# EAGLE library part DST? (library Transformer)
Split Bobbin Low Power Transformer ,115V/230V Input Datasheet <https://belfuse.com/resources/datasheets/signaltransformer/ds-st-st-series.pdf>
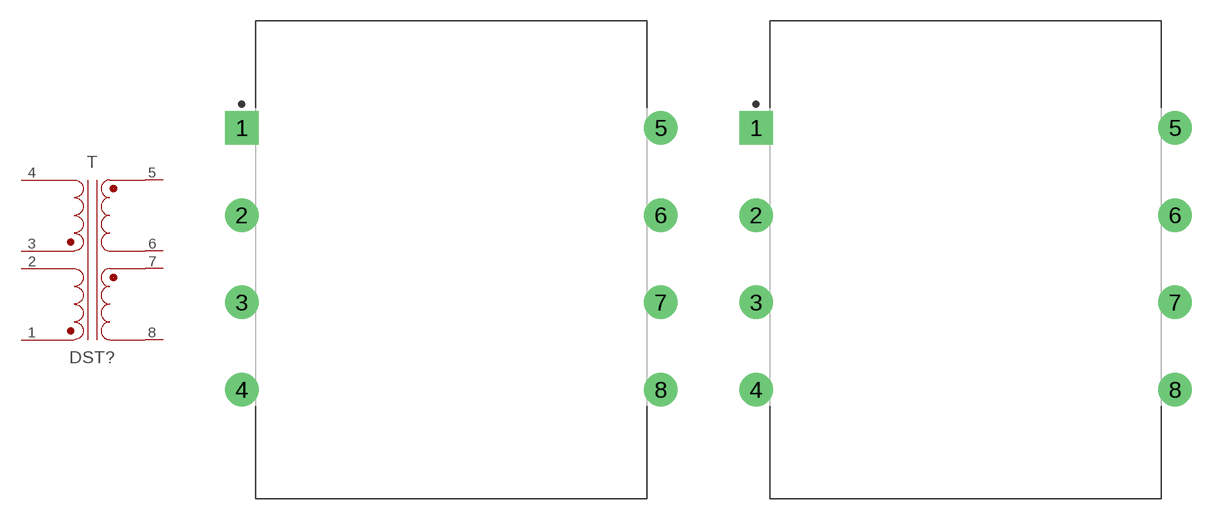
[diagram p3: symbol with the pads of XFMR_DST-2; footprints XFMR_DST-2, XFMR_DST-3]

Designator prefix T

## DST-2-10**# (CATEGORY: Transformer; DESCRIPTION: Split Bobbin Low Power Transformer | 1.1VA Power | 115V/230V Input; MANUFACTURER: Signal Transformer; MPN: DST-2-10**#; OPERATING_TEMP: -; PART_STATUS: Active; ROHS_COMPLIANT: RoHS Compliant; SERIES: DST; SUB-CATEGORY: Power; VALUE: DST-2), DST-2-12**# (CATEGORY: Transformer; DESCRIPTION: Split Bobbin Low Power Transformer | 1.1VA Power | 115V/230V Input; MANUFACTURER: Signal Transformer; MPN: DST-2-12**#; OPERATING_TEMP: -; PART_STATUS: Active; ROHS_COMPLIANT: RoHS Compliant; SERIES: DST; SUB-CATEGORY: Power; VALUE: DST-2), DST-2-120 (CATEGORY: Transformer; DESCRIPTION: Split Bobbin Low Power Transformer | 1.1VA Power | 115V/230V Input; MANUFACTURER: Signal Transformer; MPN: DST-2-120; OPERATING_TEMP: -; PART_STATUS: Active; ROHS_COMPLIANT: RoHS Compliant; SERIES: DST; SUB-CATEGORY: Power; VALUE: DST-2), DST-2-16**# (CATEGORY: Transformer; DESCRIPTION: Split Bobbin Low Power Transformer | 1.1VA Power | 115V/230V Input; MANUFACTURER: Signal Transformer; MPN: DST-2-16**#; OPERATING_TEMP: -; PART_STATUS: Active; ROHS_COMPLIANT: RoHS Compliant; SERIES: DST; SUB-CATEGORY: Power; VALUE: DST-2), DST-2-20**# (CATEGORY: Transformer; DESCRIPTION: Split Bobbin Low Power Transformer | 1.1VA Power | 115V/230V Input; MANUFACTURER: Signal Transformer; MPN: DST-2-20**#; OPERATING_TEMP: -; PART_STATUS: Active; ROHS_COMPLIANT: RoHS Compliant; SERIES: DST; SUB-CATEGORY: Power; VALUE: DST-2), DST-2-24**# (CATEGORY: Transformer; DESCRIPTION: Split Bobbin Low Power Transformer | 1.1VA Power | 115V/230V Input; MANUFACTURER: Signal Transformer; MPN: DST-2-24**#; OPERATING_TEMP: -; PART_STATUS: Active; ROHS_COMPLIANT: RoHS Compliant; SERIES: DST; SUB-CATEGORY: Power; VALUE: DST-2), DST-2-28 (CATEGORY: Transformer; DESCRIPTION: Split Bobbin Low Power Transformer | 1.1VA Power | 115V/230V Input; MANUFACTURER: Signal Transformer; MPN: DST-2-28; OPERATING_TEMP: -; PART_STATUS: Active; ROHS_COMPLIANT: RoHS Compliant; SERIES: DST; SUB-CATEGORY: Power; VALUE: DST-2), DST-2-36 (CATEGORY: Transformer; DESCRIPTION: Split Bobbin Low Power Transformer | 1.1VA Power | 115V/230V Input; MANUFACTURER: Signal Transformer; MPN: DST-2-36; OPERATING_TEMP: -; PART_STATUS: Active; ROHS_COMPLIANT: RoHS Compliant; SERIES: DST; SUB-CATEGORY: Power; VALUE: DST-2), DST-2-48 (CATEGORY: Transformer; DESCRIPTION: Split Bobbin Low Power Transformer | 1.1VA Power | 115V/230V Input; MANUFACTURER: Signal Transformer; MPN: DST-2-48; OPERATING_TEMP: -; PART_STATUS: Active; ROHS_COMPLIANT: RoHS Compliant; SERIES: DST; SUB-CATEGORY: Power; VALUE: DST-2), DST-2-56 (CATEGORY: Transformer; DESCRIPTION: Split Bobbin Low Power Transformer | 1.1VA Power | 115V/230V Input; MANUFACTURER: Signal Transformer; MPN: DST-2-56; OPERATING_TEMP: -; PART_STATUS: Active; ROHS_COMPLIANT: RoHS Compliant; SERIES: DST; SUB-CATEGORY: Power; VALUE: DST-2)  [XFMR_DST-2]
1  1  pas
2  2  pas
3  3  pas
4  4  pas
5  5  pas
6  6  pas
7  7  pas
8  8  pas

## DST-3-10*# (CATEGORY: Transformer; DESCRIPTION: Split Bobbin Low Power Transformer | 2.4VA Power | 115V/230V Input; MANUFACTURER: Signal Transformer; MPN: DST-3-10*#; OPERATING_TEMP: -; PART_STATUS: Active; ROHS_COMPLIANT: RoHS Compliant; SERIES: DST; SUB-CATEGORY: Power; VALUE: DST-3), DST-3-12*# (CATEGORY: Transformer; DESCRIPTION: Split Bobbin Low Power Transformer | 2.4VA Power | 115V/230V Input; MANUFACTURER: Signal Transformer; MPN: DST-3-12*#; OPERATING_TEMP: -; PART_STATUS: Active; ROHS_COMPLIANT: RoHS Compliant; SERIES: DST; SUB-CATEGORY: Power; VALUE: DST-3), DST-3-120 (CATEGORY: Transformer; DESCRIPTION: Split Bobbin Low Power Transformer | 2.4VA Power | 115V/230V Input; MANUFACTURER: Signal Transformer; MPN: DST-3-120; OPERATING_TEMP: -; PART_STATUS: Active; ROHS_COMPLIANT: RoHS Compliant; SERIES: DST; SUB-CATEGORY: Power; VALUE: DST-3), DST-3-16*# (CATEGORY: Transformer; DESCRIPTION: Split Bobbin Low Power Transformer | 2.4VA Power | 115V/230V Input; MANUFACTURER: Signal Transformer; MPN: DST-3-16*#; OPERATING_TEMP: -; PART_STATUS: Active; ROHS_COMPLIANT: RoHS Compliant; SERIES: DST; SUB-CATEGORY: Power; VALUE: DST-3), DST-3-20*# (CATEGORY: Transformer; DESCRIPTION: Split Bobbin Low Power Transformer | 2.4VA Power | 115V/230V Input; MANUFACTURER: Signal Transformer; MPN: DST-3-20*#; OPERATING_TEMP: -; PART_STATUS: Active; ROHS_COMPLIANT: RoHS Compliant; SERIES: DST; SUB-CATEGORY: Power; VALUE: DST-3), DST-3-24*# (CATEGORY: Transformer; DESCRIPTION: Split Bobbin Low Power Transformer | 2.4VA Power | 115V/230V Input; MANUFACTURER: Signal Transformer; MPN: DST-3-24*#; OPERATING_TEMP: -; PART_STATUS: Active; ROHS_COMPLIANT: RoHS Compliant; SERIES: DST; SUB-CATEGORY: Power; VALUE: DST-3), DST-3-28 (CATEGORY: Transformer; DESCRIPTION: Split Bobbin Low Power Transformer | 2.4VA Power | 115V/230V Input; MANUFACTURER: Signal Transformer; MPN: DST-3-28; OPERATING_TEMP: -; PART_STATUS: Active; ROHS_COMPLIANT: RoHS Compliant; SERIES: DST; SUB-CATEGORY: Power; VALUE: DST-3), DST-3-36 (CATEGORY: Transformer; DESCRIPTION: Split Bobbin Low Power Transformer | 2.4VA Power | 115V/230V Input; MANUFACTURER: Signal Transformer; MPN: DST-3-36; OPERATING_TEMP: -; PART_STATUS: Active; ROHS_COMPLIANT: RoHS Compliant; SERIES: DST; SUB-CATEGORY: Power; VALUE: DST-3), DST-3-48 (CATEGORY: Transformer; DESCRIPTION: Split Bobbin Low Power Transformer | 2.4VA Power | 115V/230V Input; MANUFACTURER: Signal Transformer; MPN: DST-3-48; OPERATING_TEMP: -; PART_STATUS: Active; ROHS_COMPLIANT: RoHS Compliant; SERIES: DST; SUB-CATEGORY: Power; VALUE: DST-3), DST-3-56 (CATEGORY: Transformer; DESCRIPTION: Split Bobbin Low Power Transformer | 2.4VA Power | 115V/230V Input; MANUFACTURER: Signal Transformer; MPN: DST-3-56; OPERATING_TEMP: -; PART_STATUS: Active; ROHS_COMPLIANT: RoHS Compliant; SERIES: DST; SUB-CATEGORY: Power; VALUE: DST-3)  [XFMR_DST-3]
Pads as for XFMR_DST-2

## DST-4-10*# (CATEGORY: Transformer; DESCRIPTION: Split Bobbin Low Power Transformer | 6VA Power | 115V/230V Input; MANUFACTURER: Signal Transformer; MPN: DST-4-10*#; OPERATING_TEMP: -; PART_STATUS: Active; SERIES: DST; SUB-CATEGORY: Power; VALUE: DST-4), DST-4-12*# (CATEGORY: Transformer; DESCRIPTION: Split Bobbin Low Power Transformer | 6VA Power | 115V/230V Input; MANUFACTURER: Signal Transformer; MPN: DST-4-12*#; OPERATING_TEMP: -; PART_STATUS: Active; SERIES: DST; SUB-CATEGORY: Power; VALUE: DST-4), DST-4-120 (CATEGORY: Transformer; DESCRIPTION: Split Bobbin Low Power Transformer | 6VA Power | 115V/230V Input; MANUFACTURER: Signal Transformer; MPN: DST-4-120; OPERATING_TEMP: -; PART_STATUS: Active; SERIES: DST; SUB-CATEGORY: Power; VALUE: DST-4), DST-4-16*# (CATEGORY: Transformer; DESCRIPTION: Split Bobbin Low Power Transformer | 6VA Power | 115V/230V Input; MANUFACTURER: Signal Transformer; MPN: DST-4-16*#; OPERATING_TEMP: -; PART_STATUS: Active; SERIES: DST; SUB-CATEGORY: Power; VALUE: DST-4), DST-4-20*# (CATEGORY: Transformer; DESCRIPTION: Split Bobbin Low Power Transformer | 6VA Power | 115V/230V Input; MANUFACTURER: Signal Transformer; MPN: DST-4-20*#; OPERATING_TEMP: -; PART_STATUS: Active; SERIES: DST; SUB-CATEGORY: Power; VALUE: DST-4), DST-4-24*# (CATEGORY: Transformer; DESCRIPTION: Split Bobbin Low Power Transformer | 6VA Power | 115V/230V Input; MANUFACTURER: Signal Transformer; MPN: DST-4-24*#; OPERATING_TEMP: -; PART_STATUS: Active; SERIES: DST; SUB-CATEGORY: Power; VALUE: DST-4), DST-4-28 (CATEGORY: Transformer; DESCRIPTION: Split Bobbin Low Power Transformer | 6VA Power | 115V/230V Input; MANUFACTURER: Signal Transformer; MPN: DST-4-28; OPERATING_TEMP: -; PART_STATUS: Active; SERIES: DST; SUB-CATEGORY: Power; VALUE: DST-4), DST-4-36 (CATEGORY: Transformer; DESCRIPTION: Split Bobbin Low Power Transformer | 6VA Power | 115V/230V Input; MANUFACTURER: Signal Transformer; MPN: DST-4-36; OPERATING_TEMP: -; PART_STATUS: Active; SERIES: DST; SUB-CATEGORY: Power; VALUE: DST-4), DST-4-48 (CATEGORY: Transformer; DESCRIPTION: Split Bobbin Low Power Transformer | 6VA Power | 115V/230V Input; MANUFACTURER: Signal Transformer; MPN: DST-4-48; OPERATING_TEMP: -; PART_STATUS: Active; SERIES: DST; SUB-CATEGORY: Power; VALUE: DST-4), DST-4-56 (CATEGORY: Transformer; DESCRIPTION: Split Bobbin Low Power Transformer | 6VA Power | 115V/230V Input; MANUFACTURER: Signal Transformer; MPN: DST-4-56; OPERATING_TEMP: -; PART_STATUS: Active; SERIES: DST; SUB-CATEGORY: Power; VALUE: DST-4)  [XFMR_DST-4]
Pads as for XFMR_DST-2

## DST-5-10*# (CATEGORY: Transformer; DESCRIPTION: Split Bobbin Low Power Transformer | 12VA Power | 115V/230V Input; MANUFACTURER: Signal Transformer; MPN: DST-5-10*#; OPERATING_TEMP: -; PART_STATUS: Active; ROHS_COMPLIANT: RoHS Compliant; SUB-CATEGORY: Power; VALUE: DST-5), DST-5-12*# (CATEGORY: Transformer; DESCRIPTION: Split Bobbin Low Power Transformer | 12VA Power | 115V/230V Input; MANUFACTURER: Signal Transformer; MPN: DST-5-12*#; OPERATING_TEMP: -; PART_STATUS: Active; ROHS_COMPLIANT: RoHS Compliant; SUB-CATEGORY: Power; VALUE: DST-5), DST-5-120 (CATEGORY: Transformer; DESCRIPTION: Split Bobbin Low Power Transformer | 12VA Power | 115V/230V Input; MANUFACTURER: Signal Transformer; MPN: DST-5-120; OPERATING_TEMP: -; PART_STATUS: Active; ROHS_COMPLIANT: RoHS Compliant; SUB-CATEGORY: Power; VALUE: DST-5), DST-5-16*# (CATEGORY: Transformer; DESCRIPTION: Split Bobbin Low Power Transformer | 12VA Power | 115V/230V Input; MANUFACTURER: Signal Transformer; MPN: DST-5-16*#; OPERATING_TEMP: -; PART_STATUS: Active; ROHS_COMPLIANT: RoHS Compliant; SUB-CATEGORY: Power; VALUE: DST-5), DST-5-20*# (CATEGORY: Transformer; DESCRIPTION: Split Bobbin Low Power Transformer | 12VA Power | 115V/230V Input; MANUFACTURER: Signal Transformer; MPN: DST-5-20*#; OPERATING_TEMP: -; PART_STATUS: Active; ROHS_COMPLIANT: RoHS Compliant; SUB-CATEGORY: Power; VALUE: DST-5), DST-5-24*# (CATEGORY: Transformer; DESCRIPTION: Split Bobbin Low Power Transformer | 12VA Power | 115V/230V Input; MANUFACTURER: Signal Transformer; MPN: DST-5-24*#; OPERATING_TEMP: -; PART_STATUS: Active; ROHS_COMPLIANT: RoHS Compliant; SUB-CATEGORY: Power; VALUE: DST-5), DST-5-28 (CATEGORY: Transformer; DESCRIPTION: Split Bobbin Low Power Transformer | 12VA Power | 115V/230V Input; MANUFACTURER: Signal Transformer; MPN: DST-5-28; OPERATING_TEMP: -; PART_STATUS: Active; ROHS_COMPLIANT: RoHS Compliant; SUB-CATEGORY: Power; VALUE: DST-5), DST-5-36 (CATEGORY: Transformer; DESCRIPTION: Split Bobbin Low Power Transformer | 12VA Power | 115V/230V Input; MANUFACTURER: Signal Transformer; MPN: DST-5-36; OPERATING_TEMP: -; PART_STATUS: Active; ROHS_COMPLIANT: RoHS Compliant; SUB-CATEGORY: Power; VALUE: DST-5), DST-5-48 (CATEGORY: Transformer; DESCRIPTION: Split Bobbin Low Power Transformer | 12VA Power | 115V/230V Input; MANUFACTURER: Signal Transformer; MPN: DST-5-48; OPERATING_TEMP: -; PART_STATUS: Active; ROHS_COMPLIANT: RoHS Compliant; SUB-CATEGORY: Power; VALUE: DST-5), DST-5-56 (CATEGORY: Transformer; DESCRIPTION: Split Bobbin Low Power Transformer | 12VA Power | 115V/230V Input; MANUFACTURER: Signal Transformer; MPN: DST-5-56; OPERATING_TEMP: -; PART_STATUS: Active; ROHS_COMPLIANT: RoHS Compliant; SUB-CATEGORY: Power; VALUE: DST-5)  [XFMR_DST-5]
Pads as for XFMR_DST-2

## DST-6-10 (CATEGORY: Transformer; DESCRIPTION: Split Bobbin Low Power Transformer | 20VA Power | 115V/230V Input; MANUFACTURER: Signal Transformer; MPN: DST-6-10; OPERATING_TEMP: -; PART_STATUS: Active; ROHS_COMPLIANT: RoHS Compliant; SERIES: DST; SUB-CATEGORY: Power; VALUE: DST-6), DST-6-12 (CATEGORY: Transformer; DESCRIPTION: Split Bobbin Low Power Transformer | 20VA Power | 115V/230V Input; MANUFACTURER: Signal Transformer; MPN: DST-6-12; OPERATING_TEMP: -; PART_STATUS: Active; ROHS_COMPLIANT: RoHS Compliant; SERIES: DST; SUB-CATEGORY: Power; VALUE: DST-6), DST-6-120 (CATEGORY: Transformer; DESCRIPTION: Split Bobbin Low Power Transformer | 20VA Power | 115V/230V Input; MANUFACTURER: Signal Transformer; MPN: DST-6-120; OPERATING_TEMP: -; PART_STATUS: Active; ROHS_COMPLIANT: RoHS Compliant; SERIES: DST; SUB-CATEGORY: Power; VALUE: DST-6), DST-6-16 (CATEGORY: Transformer; DESCRIPTION: Split Bobbin Low Power Transformer | 20VA Power | 115V/230V Input; MANUFACTURER: Signal Transformer; MPN: DST-6-16; OPERATING_TEMP: -; PART_STATUS: Active; ROHS_COMPLIANT: RoHS Compliant; SERIES: DST; SUB-CATEGORY: Power; VALUE: DST-6), DST-6-20 (CATEGORY: Transformer; DESCRIPTION: Split Bobbin Low Power Transformer | 20VA Power | 115V/230V Input; MANUFACTURER: Signal Transformer; MPN: DST-6-20; OPERATING_TEMP: -; PART_STATUS: Active; ROHS_COMPLIANT: RoHS Compliant; SERIES: DST; SUB-CATEGORY: Power; VALUE: DST-6), DST-6-24 (CATEGORY: Transformer; DESCRIPTION: Split Bobbin Low Power Transformer | 20VA Power | 115V/230V Input; MANUFACTURER: Signal Transformer; MPN: DST-6-24; OPERATING_TEMP: -; PART_STATUS: Active; ROHS_COMPLIANT: RoHS Compliant; SERIES: DST; SUB-CATEGORY: Power; VALUE: DST-6), DST-6-28 (CATEGORY: Transformer; DESCRIPTION: Split Bobbin Low Power Transformer | 20VA Power | 115V/230V Input; MANUFACTURER: Signal Transformer; MPN: DST-6-28; OPERATING_TEMP: -; PART_STATUS: Active; ROHS_COMPLIANT: RoHS Compliant; SERIES: DST; SUB-CATEGORY: Power; VALUE: DST-6), DST-6-36 (CATEGORY: Transformer; DESCRIPTION: Split Bobbin Low Power Transformer | 20VA Power | 115V/230V Input; MANUFACTURER: Signal Transformer; MPN: DST-6-36; OPERATING_TEMP: -; PART_STATUS: Active; ROHS_COMPLIANT: RoHS Compliant; SERIES: DST; SUB-CATEGORY: Power; VALUE: DST-6), DST-6-48 (CATEGORY: Transformer; DESCRIPTION: Split Bobbin Low Power Transformer | 20VA Power | 115V/230V Input; MANUFACTURER: Signal Transformer; MPN: DST-6-48; OPERATING_TEMP: -; PART_STATUS: Active; ROHS_COMPLIANT: RoHS Compliant; SERIES: DST; SUB-CATEGORY: Power; VALUE: DST-6), DST-6-56 (CATEGORY: Transformer; DESCRIPTION: Split Bobbin Low Power Transformer | 20VA Power | 115V/230V Input; MANUFACTURER: Signal Transformer; MPN: DST-6-56; OPERATING_TEMP: -; PART_STATUS: Active; ROHS_COMPLIANT: RoHS Compliant; SERIES: DST; SUB-CATEGORY: Power; VALUE: DST-6)  [XFMR_DST-6]
Pads as for XFMR_DST-2

## DST-7-10 (CATEGORY: Transformer; DESCRIPTION: Split Bobbin Low Power Transformer | 36VA Power | 115V/230V Input; MANUFACTURER: Signal Transformer; MPN: DST-7-10; OPERATING_TEMP: -; PART_STATUS: Active; ROHS_COMPLIANT: RoHS Compliant; SERIES: DST; SUB-CATEGORY: Power; VALUE: DST-7), DST-7-12 (CATEGORY: Transformer; DESCRIPTION: Split Bobbin Low Power Transformer | 36VA Power | 115V/230V Input; MANUFACTURER: Signal Transformer; MPN: DST-7-12; OPERATING_TEMP: -; PART_STATUS: Active; ROHS_COMPLIANT: RoHS Compliant; SERIES: DST; SUB-CATEGORY: Power; VALUE: DST-7), DST-7-120 (CATEGORY: Transformer; DESCRIPTION: Split Bobbin Low Power Transformer | 36VA Power | 115V/230V Input; MANUFACTURER: Signal Transformer; MPN: DST-7-120; OPERATING_TEMP: -; PART_STATUS: Active; ROHS_COMPLIANT: RoHS Compliant; SERIES: DST; SUB-CATEGORY: Power; VALUE: DST-7), DST-7-16 (CATEGORY: Transformer; DESCRIPTION: Split Bobbin Low Power Transformer | 36VA Power | 115V/230V Input; MANUFACTURER: Signal Transformer; MPN: DST-7-16; OPERATING_TEMP: -; PART_STATUS: Active; ROHS_COMPLIANT: RoHS Compliant; SERIES: DST; SUB-CATEGORY: Power; VALUE: DST-7), DST-7-20 (CATEGORY: Transformer; DESCRIPTION: Split Bobbin Low Power Transformer | 36VA Power | 115V/230V Input; MANUFACTURER: Signal Transformer; MPN: DST-7-20; OPERATING_TEMP: -; PART_STATUS: Active; ROHS_COMPLIANT: RoHS Compliant; SERIES: DST; SUB-CATEGORY: Power; VALUE: DST-7), DST-7-24 (CATEGORY: Transformer; DESCRIPTION: Split Bobbin Low Power Transformer | 36VA Power | 115V/230V Input; MANUFACTURER: Signal Transformer; MPN: DST-7-24; OPERATING_TEMP: -; PART_STATUS: Active; ROHS_COMPLIANT: RoHS Compliant; SERIES: DST; SUB-CATEGORY: Power; VALUE: DST-7), DST-7-28 (CATEGORY: Transformer; DESCRIPTION: Split Bobbin Low Power Transformer | 36VA Power | 115V/230V Input; MANUFACTURER: Signal Transformer; MPN: DST-7-28; OPERATING_TEMP: -; PART_STATUS: Active; ROHS_COMPLIANT: RoHS Compliant; SERIES: DST; SUB-CATEGORY: Power; VALUE: DST-7), DST-7-36 (CATEGORY: Transformer; DESCRIPTION: Split Bobbin Low Power Transformer | 36VA Power | 115V/230V Input; MANUFACTURER: Signal Transformer; MPN: DST-7-36; OPERATING_TEMP: -; PART_STATUS: Active; ROHS_COMPLIANT: RoHS Compliant; SERIES: DST; SUB-CATEGORY: Power; VALUE: DST-7), DST-7-48 (CATEGORY: Transformer; DESCRIPTION: Split Bobbin Low Power Transformer | 36VA Power | 115V/230V Input; MANUFACTURER: Signal Transformer; MPN: DST-7-48; OPERATING_TEMP: -; PART_STATUS: Active; ROHS_COMPLIANT: RoHS Compliant; SERIES: DST; SUB-CATEGORY: Power; VALUE: DST-7), DST-7-56 (CATEGORY: Transformer; DESCRIPTION: Split Bobbin Low Power Transformer | 36VA Power | 115V/230V Input; MANUFACTURER: Signal Transformer; MPN: DST-7-56; OPERATING_TEMP: -; PART_STATUS: Active; ROHS_COMPLIANT: RoHS Compliant; SERIES: DST; SUB-CATEGORY: Power; VALUE: DST-7)  [XFMR_DST-7]
Pads as for XFMR_DST-2

## Footprint XFMR_DST-2 (pad centres in mm)
drill 1.62 square: 1 0,0
drill 1.62: 2 0,-6.35; 3 0,-12.7; 4 0,-19.05; 5 30.48,0; 6 30.48,-6.35; 7 30.48,-12.7; 8 30.48,-19.05

## Footprint XFMR_DST-3 (pad centres in mm)
drill 1.62 square: 1 0,0
drill 1.62: 2 0,-6.35; 3 0,-12.7; 4 0,-19.05; 5 30.48,0; 6 30.48,-6.35; 7 30.48,-12.7; 8 30.48,-19.05

## Footprint XFMR_DST-4 (pad centres in mm)
drill 1.62 square: 1 0,0
drill 1.62: 2 0,-6.35; 3 0,-15.24; 4 0,-21.59; 5 31.75,0; 6 31.75,-6.35; 7 31.75,-15.24; 8 31.75,-21.59
hole 3.175 at 2.45,-10.85
hole 3.175 at 29.362,-10.85

## Footprint XFMR_DST-5 (pad centres in mm)
drill 1.62 square: 1 0,0
drill 1.62: 2 0,-7.6; 3 0,-17.8; 4 0,-25.4; 5 35.814,0; 6 35.814,-7.62; 7 35.814,-17.78; 8 35.814,-25.4
hole 3.175 at 2.025,-12.7
hole 3.175 at 33.775,-12.7

## Footprint XFMR_DST-6 (pad centres in mm)
drill 1.62 square: 1 0,0
drill 1.62: 2 0,-7.62; 3 0,-17.78; 4 0,-25.4; 5 40.64,0; 6 40.64,-7.6; 7 40.64,-17.8; 8 40.64,-25.4
hole 3.175 at 1.25,-12.7
hole 3.175 at 39.35,-12.7

## Footprint XFMR_DST-7 (pad centres in mm)
drill 1.62 square: 1 0,0
drill 1.62: 2 0,-10.16; 3 0,-20.32; 4 0,-30.48; 5 46.99,0; 6 46.99,-10.16; 7 46.99,-20.32; 8 46.99,-30.48
hole 3.505 at 1.275,12.386
hole 3.505 at 45.725,12.386
hole 3.505 at 1.275,-42.986
hole 3.505 at 45.725,-42.986